# Altium schematic symbol library CRGCQ2512J68R.SchLib: 1 symbol
Pins are listed as number, name and electrical type; pins without a type are passive.

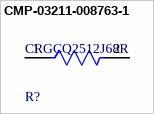
[diagram p0: symbol CMP-03211-008763-1]

## CMP-03211-008763-1
designator R?, comment CRGCQ2512J68R
CRGCQ2512 68Ω 1W ±200ppm/°C 5%200V; Manufacturer: TE Connectivity; Tolerance: 0.05; Voltage Rating: 200V; Automotive Grade: Grade 0; Device Class L1: Passive Components; Ipc Land Pattern Name: RESC635320X55; Power Rating: 1W; Series: CRGCQ; Composition: Thick Film; Category: Res; Octopart: https://octopart.com/crgcq2512j68r-te+connectivity-91018654; Resistance: 68Ω; Temperature: -55°C to +155°C; Manufacturer Part Number: CRGCQ2512J68R; Lead Free: Yes; Temperature Range Low: -55°C; Automotive: Yes; RoHS: TRUE; ComponentLink2Description: Datasheet; ComponentLink2URL: https://www.te.com/commerce/DocumentDelivery/DDEController?Action=showdoc&DocId=Data+Sheet%7F1773204-3%7F1%7Fpdf%7FEnglish%7FENG_DS_1773204-3_1.pdf%7F4-2176349-429; Temperature Coefficient: ±200ppm/°C; Height: 0.65mm; Device Class L2: Resistors; Package: CRGCQ2512; Temperature Range High: +155°C; Device Class L3: Chip SMD Resistors; Value: 68Ω
footprint FP-CRGCQ2512-IPC_C
footprint FP-CRGCQ2512-IPC_B
footprint FP-CRGCQ2512-IPC_A
pins: 1, 2